# Altium schematic symbol library Battery Charger-cache.SchLib: 17 symbols
Pins are listed as number, name and electrical type; pins without a type are passive.

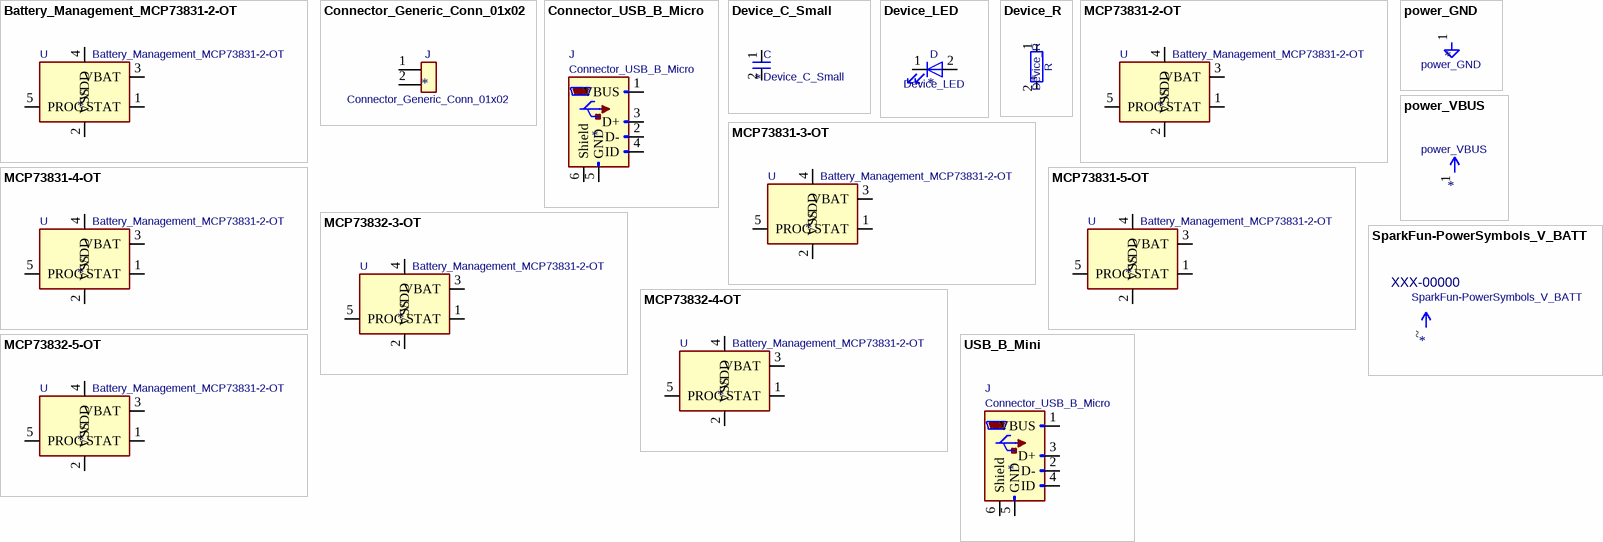
[diagram p0: symbols Battery_Management_MCP73831-2-OT to USB_B_Mini]

## Battery_Management_MCP73831-2-OT
designator U  value Battery_Management_MCP73831-2-OT
Footprint: Package_TO_SOT_SMD:SOT-23-5
footprint SOT-23-5
pins: 1 STAT, 2 VSS, 3 VBAT, 4 VDD, 5 PROG

## Connector_Generic_Conn_01x02
designator J  value Connector_Generic_Conn_01x02
pins: 1 Pin_1, 2 Pin_2

## Connector_USB_B_Micro
designator J  value Connector_USB_B_Micro
pins: 1 VBUS, 2 D-, 3 D+, 4 ID, 5 GND, 6 Shield

## Device_C_Small
designator C  value Device_C_Small
pins: 1, 2

## Device_LED
designator D  value Device_LED
pins: 1 K, 2 A

## Device_R
designator R  value Device_R
pins: 1, 2

## MCP73831-2-OT
designator U  value Battery_Management_MCP73831-2-OT
Footprint: Package_TO_SOT_SMD:SOT-23-5
footprint SOT-23-5
pins: 1 STAT, 2 VSS, 3 VBAT, 4 VDD, 5 PROG

## MCP73831-3-OT
designator U  value Battery_Management_MCP73831-2-OT
Footprint: Package_TO_SOT_SMD:SOT-23-5
footprint SOT-23-5
pins: 1 STAT, 2 VSS, 3 VBAT, 4 VDD, 5 PROG

## MCP73831-4-OT
designator U  value Battery_Management_MCP73831-2-OT
Footprint: Package_TO_SOT_SMD:SOT-23-5
footprint SOT-23-5
pins: 1 STAT, 2 VSS, 3 VBAT, 4 VDD, 5 PROG

## MCP73831-5-OT
designator U  value Battery_Management_MCP73831-2-OT
Footprint: Package_TO_SOT_SMD:SOT-23-5
footprint SOT-23-5
pins: 1 STAT, 2 VSS, 3 VBAT, 4 VDD, 5 PROG

## MCP73832-3-OT
designator U  value Battery_Management_MCP73831-2-OT
Footprint: Package_TO_SOT_SMD:SOT-23-5
footprint SOT-23-5
pins: 1 STAT, 2 VSS, 3 VBAT, 4 VDD, 5 PROG

## MCP73832-4-OT
designator U  value Battery_Management_MCP73831-2-OT
Footprint: Package_TO_SOT_SMD:SOT-23-5
footprint SOT-23-5
pins: 1 STAT, 2 VSS, 3 VBAT, 4 VDD, 5 PROG

## MCP73832-5-OT
designator U  value Battery_Management_MCP73831-2-OT
Footprint: Package_TO_SOT_SMD:SOT-23-5
footprint SOT-23-5
pins: 1 STAT, 2 VSS, 3 VBAT, 4 VDD, 5 PROG

## power_GND
designator #PWR  value power_GND
pins: 1 GND

## power_VBUS
designator #PWR  value power_VBUS
pins: 1 VBUS

## SparkFun-PowerSymbols_V_BATT
designator #SUPPLY  value SparkFun-PowerSymbols_V_BATT  Footprint: XXX-00000
footprint XXX-00000
pins: ~ V_BATT

## USB_B_Mini
designator J  value Connector_USB_B_Micro
pins: 1 VBUS, 2 D-, 3 D+, 4 ID, 5 GND, 6 Shield